# Altium footprint library Kojiki.PcbLib: 44 footprints (part 2 of 3)
Each footprint in its own frame and in the unit in brackets; x right, y up, seen from the top. Pads: shape width x height; smd on the part's side, far side on the other; paste and mask are expansions set on the pad; w line width, h text height; cw(c..) or ccw(c..) is an arc to the next point about the centre after c.
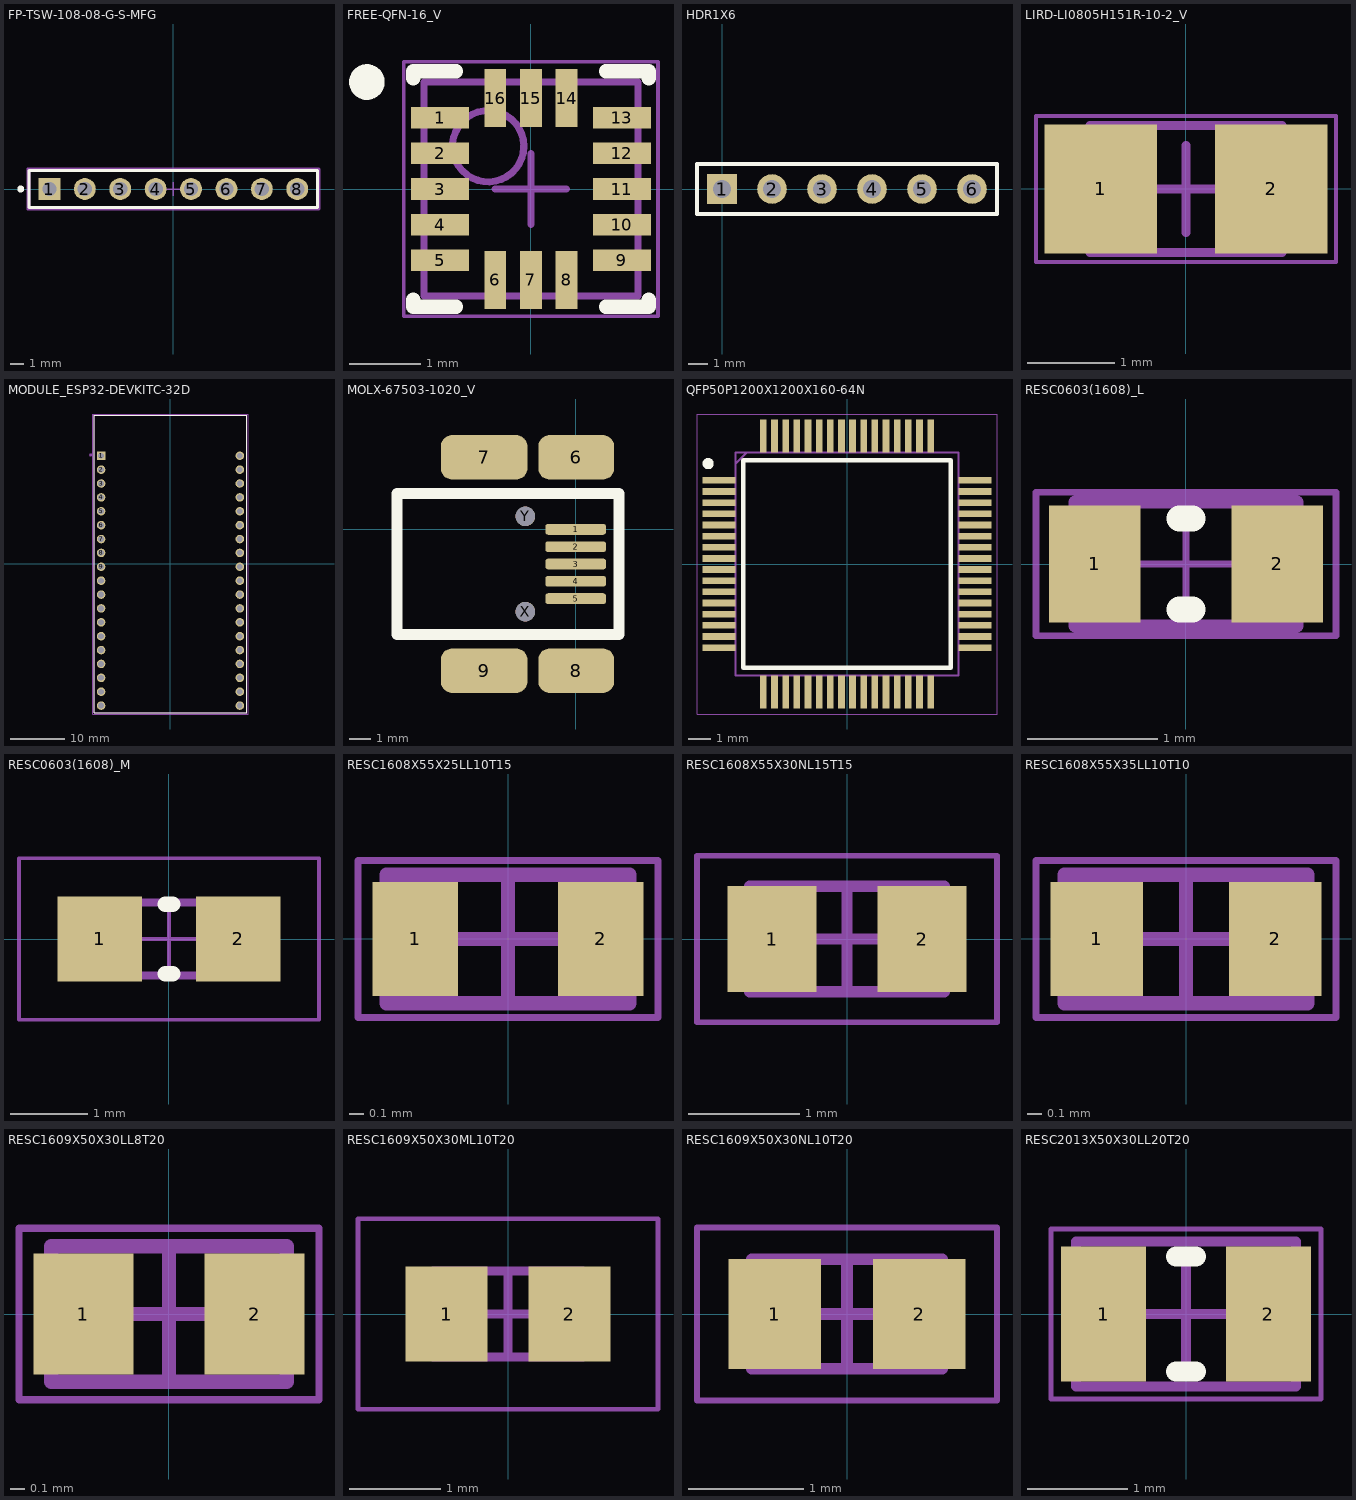
[diagram p1: the footprints below, top view; thin cyan lines are the x and y axes]

## FP-TSW-108-08-G-S-MFG [mm]
pads (8):
  rect 1.57x1.57 hole 1.02: 1(-8.89,0)
  round 1.57 hole 1.02: 2(-6.35,0) 3(-3.81,0) 4(-1.27,0) 5(1.27,0) 6(3.81,0) 7(6.35,0) 8(8.89,0)
Top Overlay:
  circle w0.25: c-10.95,0 r0.125
  lines w0.2: -10.35,-1.335 -10.35,1.335 10.35,1.335 10.35,-1.335 -10.35,-1.335
Top Assembly:
  lines w0.2: -10.45,-1.435 -10.45,1.435 10.45,1.435 10.45,-1.435 -10.45,-1.435
  text ".Designator" at 0,0.188 h1
Top 3D Body:
  lines w0.2: -10.35,-1.335 -10.35,1.335 10.35,1.335 10.35,-1.335 -10.35,-1.335
Top Courtyard:
  lines w0.2: -10.45,-1.435 -10.45,1.435 10.45,1.435 10.45,-1.435 -10.45,-1.435
Top Component Center:
  lines w0.1: -0.5,0 0.5,0 ; 0,-0.5 0,0.5
3D body "Conn_Samtec_TSW-108-08-G-S_eec.STEP": height 0.25, standoff 0, extent -10.45,-1.435 10.45,1.435

## FREE-QFN-16_V [mm]
pads (16):
  rect 0.813x0.305 smd: 1(-1.275,1) 2(-1.275,0.5) 3(-1.275,0) 4(-1.275,-0.5) 5(-1.275,-1) 9(1.275,-1) 10(1.275,-0.5) 11(1.275,0) 12(1.275,0.5) 13(1.275,1)
  rect 0.305x0.813 smd: 6(-0.5,-1.275) 7(0,-1.275) 8(0.5,-1.275) 14(0.5,1.275) 15(0,1.275) 16(-0.5,1.275)
Top Overlay:
  circle w0.25: c-2.3,1.5 r0.125
  lines w0.2: -1.65,-1.552 -1.65,-1.65 -1.053,-1.65 ; -1.65,1.553 -1.65,1.65 -1.053,1.65 ; 1.052,-1.65 1.65,-1.65 1.65,-1.552 ; 1.052,1.65 1.65,1.65 1.65,1.553
Top 3D Body:
  circle w0.1: c-0.6,0.6 r0.5
  lines w0.1: -1.5,-1.5 -1.5,1.5 1.5,1.5 1.5,-1.5 -1.5,-1.5
Top Courtyard:
  lines w0.05: -1.782,-1.781 -1.782,1.782 1.781,1.782 1.781,-1.781 -1.782,-1.781
  lines w0.1: -0.5,0 0.5,0 ; 0,-0.5 0,0.5
3D body "QFN50P300X300X100-16M.step": height 1, standoff 0, extent -1.501,-1.501 1.501,1.501

## HDR1X6 [mm]
pads (6):
  rect 1.5x1.5 hole 0.9: 1(0,0)
  round 1.5 hole 0.9: 2(2.54,0) 3(5.08,0) 4(7.62,0) 5(10.16,0) 6(12.7,0)
Top Overlay:
  lines w0.2: -1.27,-1.27 -1.27,1.27 13.97,1.27 13.97,-1.27 -1.27,-1.27

## LIRD-LI0805H151R-10-2_V [mm]
pads (2):
  rect 1.285x1.47 smd: 1(-0.972,0) 2(0.972,0)
Top 3D Body:
  lines w0.1: -1.1,-0.725 -1.1,0.725 1.1,0.725 1.1,-0.725 -1.1,-0.725
Top Courtyard:
  lines w0.05: -1.715,-0.835 1.715,-0.835 1.715,0.835 -1.715,0.835 -1.715,-0.835
  lines w0.1: -0.5,0 0.5,0 ; 0,-0.5 0,0.5
3D body: height 1.1, standoff 0, extent 0.59,-0.725 1.1,0.725
3D body: height 1.1, standoff 0, extent -1.1,-0.725 -0.59,0.725
3D body: height 1.1, standoff 0, extent -0.59,-0.725 0.59,0.725

## MODULE_ESP32-DEVKITC-32D [mm]
pads (38):
  rect 1.56x1.56 hole 1.04: 1(-12.7,19.76)
  round 1.56 hole 1.04: 2(-12.7,17.22) 3(-12.7,14.68) 4(-12.7,12.14) 5(-12.7,9.6) 6(-12.7,7.06) 7(-12.7,4.52) 8(-12.7,1.98) 9(-12.7,-0.56) 10(-12.7,-3.1) 11(-12.7,-5.64) 12(-12.7,-8.18) 13(-12.7,-10.72) 14(-12.7,-13.26) 15(-12.7,-15.8) 16(-12.7,-18.34) 17(-12.7,-20.88) 18(-12.7,-23.42) 19(-12.7,-25.96) 20(12.7,19.76) 21(12.7,17.22) 22(12.7,14.68) 23(12.7,12.14) 24(12.7,9.6) 25(12.7,7.06) 26(12.7,4.52) 27(12.7,1.98) 28(12.7,-0.56) 29(12.7,-3.1) 30(12.7,-5.64) 31(12.7,-8.18) 32(12.7,-10.72) 33(12.7,-13.26) 34(12.7,-15.8) 35(12.7,-18.34) 36(12.7,-20.88) 37(12.7,-23.42) 38(12.7,-25.96)
Top Overlay:
  lines w0.127: -13.95,-27.25 13.95,-27.25 13.95,27.15 -13.95,27.15 -13.95,-27.25
Top 3D Body:
  circle w0.28: c-14.6,19.9 r0.14
  lines w0.127: -13.95,-27.25 -13.95,27.15 13.95,27.15 13.95,-27.25 -13.95,-27.25
Top Courtyard:
  lines w0.05: -14.2,-27.5 -14.2,27.4 14.2,27.4 14.2,-27.5 -14.2,-27.5

## MOLX-67503-1020_V [mm]
pads (11):
  rrect50% 2.8x0.5 smd: 1(0,0) 2(0,-0.8) 3(0,-1.6) 4(0,-2.4) 5(0,-3.2)
  rrect50% 3.5x2.05 smd: 6(0.025,3.325) 8(0.025,-6.525)
  rrect50% 4x2.05 smd: 7(-4.225,3.325) 9(-4.225,-6.525)
  round 0.9 hole 0.9 unplated: X(-2.325,-3.8) Y(-2.325,0.6)
Top Overlay:
  lines w0.5: -8.25,-4.85 2,-4.85 2,1.65 -8.25,1.65 -8.25,-4.85
3D body "USB Mini B - Connector.stp": height 3.95, standoff -1, extent -8.217,-6.557 0.783,3.343

## QFP50P1200X1200X160-64N [mm]
pads (64):
  rect 1.475x0.3 smd: 1(-5.738,3.75) 2(-5.738,3.25) 3(-5.738,2.75) 4(-5.738,2.25) 5(-5.738,1.75) 6(-5.738,1.25) 7(-5.738,0.75) 8(-5.738,0.25) 9(-5.738,-0.25) 10(-5.738,-0.75) 11(-5.738,-1.25) 12(-5.738,-1.75) 13(-5.738,-2.25) 14(-5.738,-2.75) 15(-5.738,-3.25) 16(-5.738,-3.75) 33(5.738,-3.75) 34(5.738,-3.25) 35(5.738,-2.75) 36(5.738,-2.25) 37(5.738,-1.75) 38(5.738,-1.25) 39(5.738,-0.75) 40(5.738,-0.25) 41(5.738,0.25) 42(5.738,0.75) 43(5.738,1.25) 44(5.738,1.75) 45(5.738,2.25) 46(5.738,2.75) 47(5.738,3.25) 48(5.738,3.75)
  rect 0.3x1.475 smd: 17(-3.75,-5.738) 18(-3.25,-5.738) 19(-2.75,-5.738) 20(-2.25,-5.738) 21(-1.75,-5.738) 22(-1.25,-5.738) 23(-0.75,-5.738) 24(-0.25,-5.738) 25(0.25,-5.738) 26(0.75,-5.738) 27(1.25,-5.738) 28(1.75,-5.738) 29(2.25,-5.738) 30(2.75,-5.738) 31(3.25,-5.738) 32(3.75,-5.738) 49(3.75,5.738) 50(3.25,5.738) 51(2.75,5.738) 52(2.25,5.738) 53(1.75,5.738) 54(1.25,5.738) 55(0.75,5.738) 56(0.25,5.738) 57(-0.25,5.738) 58(-0.75,5.738) 59(-1.25,5.738) 60(-1.75,5.738) 61(-2.25,5.738) 62(-2.75,5.738) 63(-3.25,5.738) 64(-3.75,5.738)
Top Overlay:
  circle w0.25: c-6.225,4.5 r0.125
  lines w0.2: -4.65,-4.65 4.65,-4.65 4.65,4.65 -4.65,4.65 -4.65,-4.65
Top 3D Body:
  lines w0.1: -5,4.5 -4.5,5 ; -5,-5 5,-5 5,5 -5,5 -5,-5
Top Courtyard:
  lines w0.05: -6.725,-6.725 6.725,-6.725 6.725,6.725 -6.725,6.725 -6.725,-6.725
3D body "FT2232HL-REEL.stp": height 1.6, standoff 0, extent -6,-6 6,6

## RESC0603(1608)_L [mm]
pads (2):
  rect 0.7x0.9 smd: 1(-0.7,0) 2(0.7,0)
Top Overlay:
  lines w0.2: -0.05,-0.35 0.05,-0.35 ; -0.05,0.35 0.05,0.35
Top 3D Body:
  lines w0.1: -0.85,-0.475 -0.85,0.475 0.85,0.475 0.85,-0.475 -0.85,-0.475
Top Courtyard:
  lines w0.05: -0.475,0 0.475,0 ; 0,-0.475 0,0.475 ; -1.15,-0.55 -1.15,0.55 1.15,0.55 1.15,-0.55 -1.15,-0.55
3D body: height 0.6, standoff 0, extent 0.581,-0.474 0.85,0.475
3D body: height 0.6, standoff 0, extent -0.58,-0.474 0.581,0.475
3D body: height 0.6, standoff 0, extent -0.849,-0.474 -0.58,0.475

## RESC0603(1608)_M [mm]
pads (2):
  rect 1.1x1.1 smd: 1(-0.9,0) 2(0.9,0)
Top Overlay:
  lines w0.2: -0.05,-0.45 0.05,-0.45 ; -0.05,0.45 0.05,0.45
Top 3D Body:
  lines w0.1: -0.85,-0.475 0.85,-0.475 0.85,0.475 -0.85,0.475 -0.85,-0.475
Top Courtyard:
  lines w0.05: -0.475,0 0.475,0 ; 0,-0.475 0,0.475 ; -1.95,-1.05 1.95,-1.05 1.95,1.05 -1.95,1.05 -1.95,-1.05
3D body: height 0.6, standoff 0, extent 0.581,-0.474 0.85,0.475
3D body: height 0.6, standoff 0, extent -0.58,-0.474 0.581,0.475
3D body: height 0.6, standoff 0, extent -0.849,-0.474 -0.58,0.475

## RESC1608X55X25LL10T15 [mm]
pads (2):
  rect 0.6x0.8 smd: 1(-0.65,0) 2(0.65,0)
Top 3D Body:
  lines w0.1: -0.85,-0.45 -0.85,0.45 0.85,0.45 0.85,-0.45 -0.85,-0.45
Top Courtyard:
  lines w0.05: -1.05,-0.55 -1.05,0.55 1.05,0.55 1.05,-0.55 -1.05,-0.55
  lines w0.1: -0.45,0 0.45,0 ; 0,-0.45 0,0.45
3D body: height 0.55, standoff 0, extent -0.6,-0.45 0.6,0.45
3D body: height 0.55, standoff 0, extent -0.85,-0.45 -0.6,0.45
3D body: height 0.55, standoff 0, extent 0.6,-0.45 0.85,0.45

## RESC1608X55X30NL15T15 [mm]
pads (2):
  rect 0.8x0.95 smd: 1(-0.675,0) 2(0.675,0)
Top 3D Body:
  lines w0.1: -0.875,-0.475 -0.875,0.475 0.875,0.475 0.875,-0.475 -0.875,-0.475
Top Courtyard:
  lines w0.05: -1.35,-0.75 -1.35,0.75 1.35,0.75 1.35,-0.75 -1.35,-0.75
  lines w0.1: -0.475,0 0.475,0 ; 0,-0.475 0,0.475
3D body: height 0.55, standoff 0, extent -0.575,-0.475 0.575,0.475
3D body: height 0.55, standoff 0, extent -0.875,-0.475 -0.575,0.475
3D body: height 0.55, standoff 0, extent 0.575,-0.475 0.875,0.475

## RESC1608X55X35LL10T10 [mm]
pads (2):
  rect 0.65x0.8 smd: 1(-0.625,0) 2(0.625,0)
Top 3D Body:
  lines w0.1: -0.85,-0.45 -0.85,0.45 0.85,0.45 0.85,-0.45 -0.85,-0.45
Top Courtyard:
  lines w0.05: -1.05,-0.55 -1.05,0.55 1.05,0.55 1.05,-0.55 -1.05,-0.55
  lines w0.1: -0.45,0 0.45,0 ; 0,-0.45 0,0.45
3D body: height 0.55, standoff 0, extent -0.5,-0.45 0.5,0.45
3D body: height 0.55, standoff 0, extent -0.85,-0.45 -0.5,0.45
3D body: height 0.55, standoff 0, extent 0.5,-0.45 0.85,0.45

## RESC1609X50X30LL8T20 [mm]
pads (2):
  rect 0.7x0.85 smd: 1(-0.6,0) 2(0.6,0)
Top 3D Body:
  lines w0.1: -0.825,-0.475 -0.825,0.475 0.825,0.475 0.825,-0.475 -0.825,-0.475
Top Courtyard:
  lines w0.05: -1.05,-0.6 -1.05,0.6 1.05,0.6 1.05,-0.6 -1.05,-0.6
  lines w0.1: -0.475,0 0.475,0 ; 0,-0.475 0,0.475
3D body "RESC1608X05L.step": height 0.5, standoff 0, extent -0.825,-0.475 0.825,0.475

## RESC1609X50X30ML10T20 [mm]
pads (2):
  rect 0.9x1.05 smd: 1(-0.675,0) 2(0.675,0)
Top 3D Body:
  lines w0.1: -0.825,-0.475 -0.825,0.475 0.825,0.475 0.825,-0.475 -0.825,-0.475
Top Courtyard:
  lines w0.05: -1.65,-1.05 -1.65,1.05 1.65,1.05 1.65,-1.05 -1.65,-1.05
  lines w0.1: -0.475,0 0.475,0 ; 0,-0.475 0,0.475
3D body: height 0.5, standoff 0, extent -0.525,-0.475 0.525,0.475
3D body: height 0.5, standoff 0, extent -0.825,-0.475 -0.525,0.475
3D body: height 0.5, standoff 0, extent 0.525,-0.475 0.825,0.475

## RESC1609X50X30NL10T20 [mm]
pads (2):
  rect 0.8x0.95 smd: 1(-0.625,0) 2(0.625,0)
Top 3D Body:
  lines w0.1: -0.825,-0.475 -0.825,0.475 0.825,0.475 0.825,-0.475 -0.825,-0.475
Top Courtyard:
  lines w0.05: -1.3,-0.75 -1.3,0.75 1.3,0.75 1.3,-0.75 -1.3,-0.75
  lines w0.1: -0.475,0 0.475,0 ; 0,-0.475 0,0.475
3D body: height 0.5, standoff 0, extent -0.525,-0.475 0.525,0.475
3D body: height 0.5, standoff 0, extent -0.825,-0.475 -0.525,0.475
3D body: height 0.5, standoff 0, extent 0.525,-0.475 0.825,0.475

## RESC2013X50X30LL20T20 [mm]
pads (2):
  rect 0.85x1.35 smd: 1(-0.825,0) 2(0.825,0)
Top Overlay:
  lines w0.2: -0.1,-0.575 0.1,-0.575 ; -0.1,0.575 0.1,0.575
Top 3D Body:
  lines w0.1: -1.1,-0.725 -1.1,0.725 1.1,0.725 1.1,-0.725 -1.1,-0.725
Top Courtyard:
  lines w0.05: -1.35,-0.85 -1.35,0.85 1.35,0.85 1.35,-0.85 -1.35,-0.85
  lines w0.1: -0.5,0 0.5,0 ; 0,-0.5 0,0.5
3D body: height 0.5, standoff 0, extent -0.8,-0.725 0.8,0.725
3D body: height 0.5, standoff 0, extent -1.1,-0.725 -0.8,0.725
3D body: height 0.5, standoff 0, extent 0.8,-0.725 1.1,0.725